# Altium footprint library PcbLib2.PcbLib: 4 footprints
Each footprint in its own frame and in the unit in brackets; x right, y up, seen from the top. Pads: shape width x height; smd on the part's side, far side on the other; paste and mask are expansions set on the pad; w line width, h text height; cw(c..) or ccw(c..) is an arc to the next point about the centre after c.
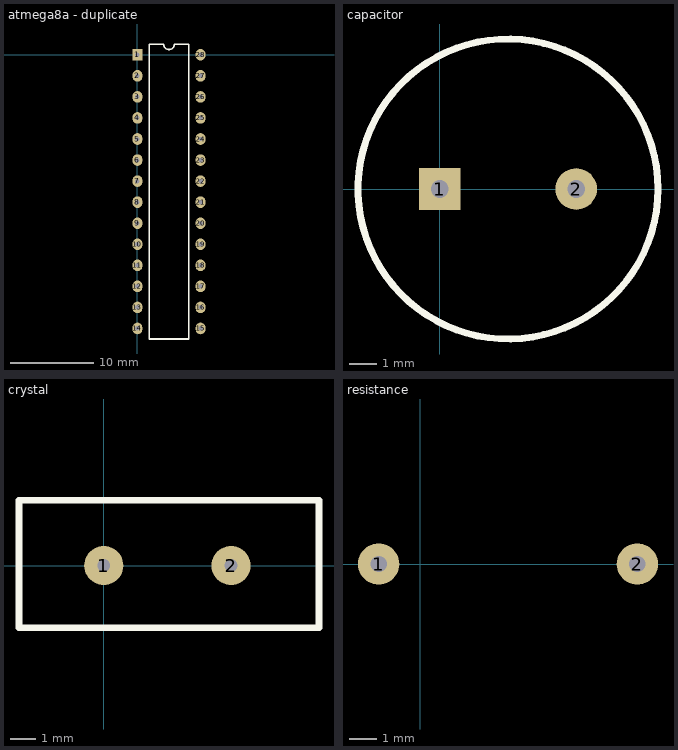
[diagram p0: the footprints below, top view; thin cyan lines are the x and y axes]

## atmega8a - duplicate [mm]
pads (28):
  rect 1.2x1.4 / inner rect 1.2x1.2 / far side rect 1.2x1.4 hole 0.54: 1(0,0)
  oval 1.2x1.4 / inner round 1.2 / far side oval 1.2x1.4 hole 0.54: 2(0,-2.54) 3(0,-5.08) 4(0,-7.62) 5(0,-10.16) 6(0,-12.7) 7(0,-15.24) 8(0,-17.78) 9(0,-20.32) 10(0,-22.86) 11(0,-25.4) 12(0,-27.94) 13(0,-30.48) 14(0,-33.02) 15(7.62,-33.02) 16(7.62,-30.48) 17(7.62,-27.94) 18(7.62,-25.4) 19(7.62,-22.86) 20(7.62,-20.32) 21(7.62,-17.78) 22(7.62,-15.24) 23(7.62,-12.7) 24(7.62,-10.16) 25(7.62,-7.62) 26(7.62,-5.08) 27(7.62,-2.54) 28(7.62,0)
Top Overlay:
  lines w0.2: 1.435,-34.29 6.185,-34.29 6.185,1.27 4.445,1.27 cw(c3.81,1.27) 3.175,1.27 1.435,1.27 1.435,-34.29
3D body "ATMEGA8A-PU--3DModel-STEP-56544.STEP": height 4.57, standoff -3.43, extent -1.397,-33.591 8.763,1.079

## capacitor [mil]
pads (2):
  rect 60x60 hole 25.59: 1(0,0)
  round 60 hole 25.59: 2(196.85,0)
Top Overlay:
  circle w10: c98.43,0 r216.54
3D body "EEU-FS1J270B.STEP": height 492.13, standoff -610.24, extent -8.27,-100 208.27,96.85

## crystal [mil]
pads (2):
  round 60 hole 19.68: 1(0,0) 2(195.28,0)
Top Overlay:
  lines w10: -130,-95 330,-95 330,100 -130,100 -130,-95
3D body "ECS-115.2-S-4.STEP": height 137.8, standoff -500, extent -123.43,-91.54 323.43,91.54

## resistance [mil]
pads (2):
  round 60 hole 23.62: 1(-60,0) 2(314.96,0)
3D body "CFR-25JB-52-330R.STEP": height 101.99, standoff -933.07, extent -73.82,-51.18 323.82,51.18